# Altium integrated library Telelamp-Fuente.IntLib: 21 symbols
Pins are listed as number, name and electrical type; pins without a type are passive.

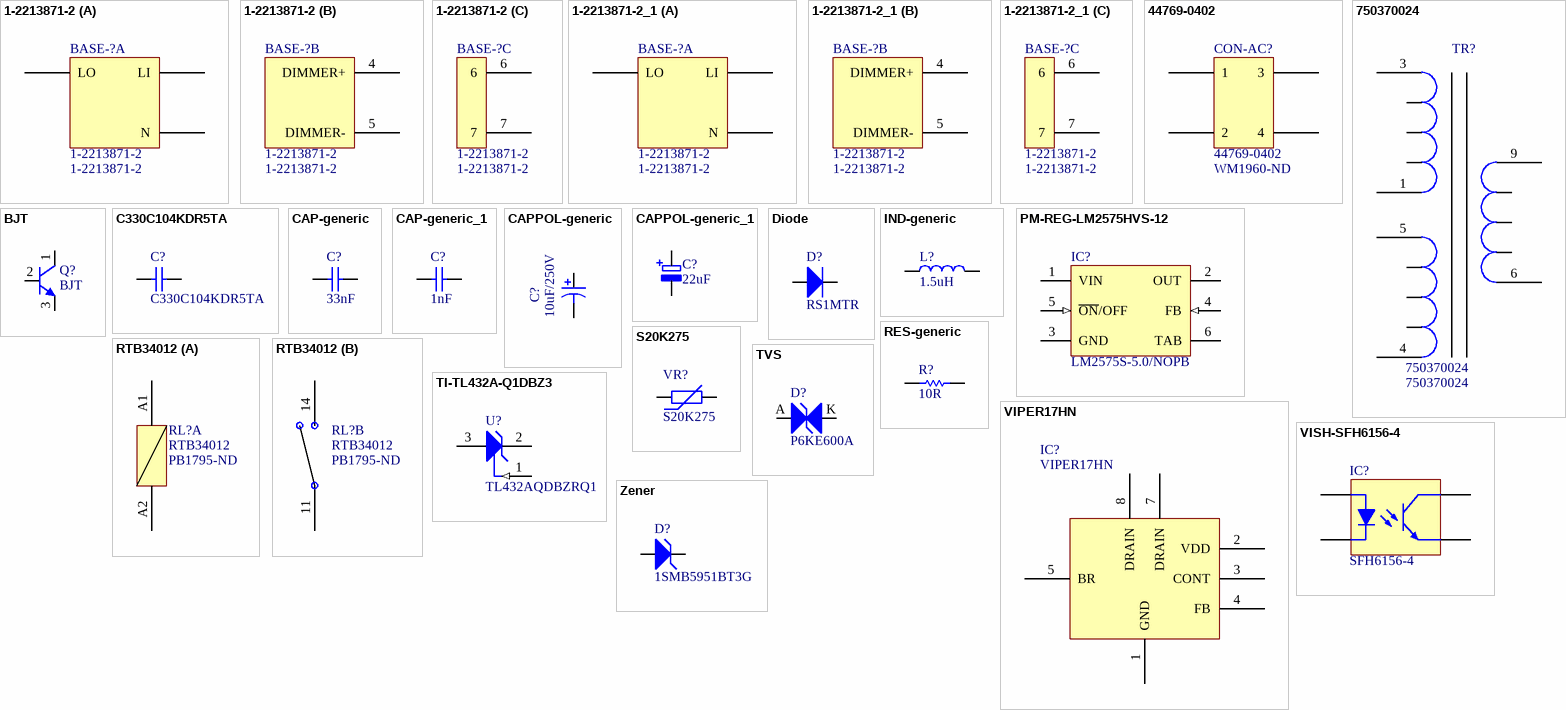
[diagram p0: symbols 1-2213871-2 to Zener]

## 1-2213871-2
designator BASE-?
LIGHT CONTROLLER BASE ASSY,81MM; Manufacturer: TE Connectivity AMP Connectors; Accessory Type: Light Controller Base Assembly; For Use With/Related Products: TE Connectivity, 2306130-x, 2213996-x; Supplier 1: Digi-Key; Manufacturer Part Number: 1-2213871-2; RoHS: RoHS Compliant; Category: Optoelectronics; Stock 1: 100; Pricing 1: 1=9.41, 10=8.523, 25=6.7476, 100=5.6821, 250=5.32692, 500=4.88302, 1000=4.61668 (USD); Part Status: Active; ComponentLink1URL: http://www.te.com/commerce/DocumentDelivery/DDEController?Action=srchrtrv&DocNm=2213871&DocType=Customer+Drawing&DocLang=English; ComponentLink1Description: http://www.te.com/commerce/DocumentDelivery/DDEController?Action=srchrtrv&DocNm=2213871&DocType=Customer+Drawing&DocLang=English; Supplier Part Number 1: A126616-ND; Value: 1-2213871-2
footprint BASE
part A pins: LI, LO, N
part B pins: 4 DIMMER+, 5 DIMMER-
part C pins: 6, 7

## 1-2213871-2_1
designator BASE-?, comment 1-2213871-2
LIGHT CONTROLLER BASE ASSY,81MM; Manufacturer: TE Connectivity AMP Connectors; Accessory Type: Light Controller Base Assembly; For Use With/Related Products: TE Connectivity, 2306130-x, 2213996-x; Supplier 1: Digi-Key; Manufacturer Part Number: 1-2213871-2; RoHS: RoHS Compliant; Category: Optoelectronics; Stock 1: 100; Pricing 1: 1=9.41, 10=8.523, 25=6.7476, 100=5.6821, 250=5.32692, 500=4.88302, 1000=4.61668 (USD); Part Status: Active; ComponentLink1URL: http://www.te.com/commerce/DocumentDelivery/DDEController?Action=srchrtrv&DocNm=2213871&DocType=Customer+Drawing&DocLang=English; ComponentLink1Description: http://www.te.com/commerce/DocumentDelivery/DDEController?Action=srchrtrv&DocNm=2213871&DocType=Customer+Drawing&DocLang=English; Supplier Part Number 1: A126616-ND; Value: 1-2213871-2
footprint PCBComponent_1
part A pins: LI, LO, N
part B pins: 4 DIMMER+, 5 DIMMER-
part C pins: 6, 7

## 44769-0402
designator CON-AC?  Supplier Part Number 1: WM1960-ND
CONN HDR RCPT 4POS 3MM VERT PCB; Manufacturer: Molex Connector Corporation; Connector Type: Receptacle; Style: Board to Board or Cable; Number of Positions: 4; Number of Positions Loaded: All; Pitch - Mating: 0.118" (3.00mm); Contact Length - Post: 0.134" (3.40mm); Material Flammability Rating: UL94 V-0; Mated Stacking Heights: 16.86mm; Current Rating: 5A; Voltage Rating: 250VAC; Supplier 1: Digi-Key; Manufacturer Part Number: 44769-0402; RoHS: RoHS Compliant; Category: Connectors, Interconnects; Stock 1: 1778; Pricing 1: 1=2.24, 10=2.034, 100=1.743, 500=1.4525, 1000=1.245, 5000=1.1039 (USD); Packaging: Tray; Part Status: Active; Contact Type: Female Socket; Row Spacing - Mating: 0.118" (3.00mm); Mounting Type: Through Hole; Termination: Solder; Fastening Type: Push-Pull; Contact Finish - Mating: Gold; Contact Finish Thickness - Mating: 15µin (0.38µm); Insulation Color: Black; Insulation Height: 0.535" (13.60mm); Operating Temperature: -40°C ~ 105°C; Contact Finish - Post: Tin; Ingress Protection: -; Features: Board Guide; Applications: General Purpose, Telecommunications; Insulation Material: Liquid Crystal Polymer (LCP), Glass Filled; Contact Shape: Square; Contact Material: Phosphor Bronze; Contact Finish Thickness - Post: 100µin (2.54µm); ComponentLink1URL: http://www.molex.com/pdm_docs/sd/447690401_sd.pdf; ComponentLink1Description: http://www.molex.com/pdm_docs/sd/447690401_sd.pdf
footprint CON_4P_3MM
pins: 1, 2, 3, 4

## 750370024
designator TR?
TRANS OFF LINE POWER ST VIPER17H; Manufacturer: Wurth Electronics Midcom; Chipset Manufacturer: STMicroelectronics; Type: For AC/DC Converters; Voltage - Primary: 120 ~ 600V; Voltage - Auxillary: 16V @ 50mA; Voltage - Isolation: 4000Vrms; Inductance @ Frequency: 1.6mH @ 10kHz; Frequency: 115kHz; Supplier 1: Digi-Key; RoHS: RoHS Compliant; Category: Transformers; Stock 1: 0; Pricing 1: 130=4.379 (USD); Packaging: Tray; Part Status: Active; Applications: Flyback Converters; Intended Chipset: VIPER17H; Operating Temperature: -40°C ~ 125°C; Mounting Type: Through Hole; Size / Dimension: 0.540" L x 0.805" W (13.72mm x 20.45mm); Height - Seated (Max): 0.430" (10.92mm); Footprint: 0.540" L x 0.805" W (13.72mm x 20.45mm); ComponentLink1URL: http://katalog.we-online.de/pbs/datasheet/750370024.pdf; ComponentLink1Description: http://katalog.we-online.de/pbs/datasheet/750370024.pdf; Supplier Part Number 1: 732-2252-ND; Manufacturer Part Number: 750370024
footprint 750370024_WE_TRANSFO
pins: 1, 3, 4, 5, 6, 9

## BJT
designator Q?
footprint TO92-1
pins: 1 C, 2 B, 3 E

## C330C104KDR5TA
designator C?
footprint C_Radial_7_62/5_08 (Capacitor Size 7.62mm x 5.08mm pitch5.08 Height 9.14)
pins: 1, 2

## CAP-generic
designator C?, comment 33nF
Chip Ceramic Capacitor SMD; Populated: Yes; Voltage: 50V; Value: 33nF; Manuf1: *; Manuf2: *; Manuf1Partnumber: *; Manuf2Partnumber: *; ClassName: *; ROHS: Yes; LifeCycle: Checked; HelpURL: *; Supplier 1: Digi-Key; Supplier Part Number 1: 445-6950-1-ND
footprint CAPC1005X03N[0402] (Chip Resistor, 2-Leads, Body 1,00x0,50mm, IPC Medium Density)
footprint CAPC1608X05N[0603] (Chip Resistor, 2-Leads, Body 1,60x0,80mm, IPC Medium Density)
footprint CAPC2012X05N[0805] (Chip Resistor, 2-Leads, Body 2,00x1,25mm, IPC Medium Density)
footprint CAPC3216X06N[1206] (Chip Resistor, 2-Leads, Body 3,10x1,60mm, IPC Medium Density)
footprint CAPC3225X06N[1210] (Chip Resistor, 2-Leads, Body 3,10x2,60mm, IPC Medium Density)
footprint CAPC4532X06N[1812] (Chip Resistor, 2-Leads, Body 4,50x3,20mm, IPC Medium Density)
footprint 1812X7R
pins: 1, 2

## CAP-generic_1
designator C?, comment 1nF
Ceramic Capacitor PTH; Manufacturer: Vishay BC Components; Manufacturer Part Number: S102K33Y5PP63K5R; Populated: Yes; Voltage: 2000V; Tolerance: ±10%; Voltage - Rated: 2000V (2kV); Temperature Coefficient: Y5P (B); Value: 1nF; Manuf1: *; Manuf2: *; Manuf1Partnumber: *; Manuf2Partnumber: *; ClassName: *; ROHS: Yes; LifeCycle: Checked; HelpURL: *; Supplier 1: Digi-Key; Supplier Part Number 1: 1252PH-ND; Category: Capacitors; Stock 1: 12304; Pricing 1: 1=0.26, 10=0.179, 100=0.1017, 500=0.07176, 1000=0.06279, 2500=0.0598, 5000=0.05532 (USD); Packaging: Bulk; Part Status: Active; Operating Temperature: -30°C ~ 85°C; Features: -; Ratings: -; Applications: General Purpose; Failure Rate: -; Mounting Type: Through Hole; Package / Case: Radial, Disc; Size / Dimension: 0.335" Dia (8.50mm); Height - Seated (Max): 0.492" (12.50mm); Thickness (Max): -; Lead Spacing: 0.197" (5.00mm); Lead Style: Formed Leads - Kinked; ComponentLink1URL: http://www.vishay.com/docs/28515/sseries.pdf; ComponentLink1Description: http://www.vishay.com/docs/28515/sseries.pdf
footprint C025-024X044
footprint C025-025X050
footprint C025-030X050
footprint C025-040X050
footprint C025-050X050
footprint C025-060X050
footprint C025_050-024X070
footprint C025_050-025X075
footprint C025_050-035X075
footprint C025_050-045X075
footprint C025_050-055X075
footprint C050-024X044
footprint C050-025X075
footprint C050-030X075
footprint C050-035X075
footprint C050-045X075
footprint C050-050X075
footprint C050-055X075
footprint C050-075X075
footprint C075-032X103
footprint C075-042X103
footprint C075-052X106
footprint C075-063X106
footprint C102-043X133
footprint C102-054X133
footprint C102-064X133
footprint C102_152-062X184
footprint C150-054X183
footprint C150-064X183
footprint C150-072X183
footprint C150-084X183
footprint C150-091X182
footprint C225-062X268
footprint C225-074X268
footprint C225-087X268
footprint C225-108X268
footprint C225-113X268
footprint C275-093X316
footprint C275-113X316
footprint C275-134X316
footprint C275-154X316
footprint C275-173X316
footprint C275-205X316
footprint EU25-10
footprint EU35-10
footprint EU35-12
footprint EU43-14
footprint EU45-16
footprint EU45-18
footprint XC10B5
footprint XC10B6
footprint XC15B5
footprint XC15B6
footprint XC15B8
footprint XC15B10
footprint XC22B7
footprint XC22B10
footprint XC27B11
footprint XC27B13
footprint XC27B15
footprint XC27B18
footprint XC27B21
footprint YC7B5
footprint YC10B4
footprint YC10B5
footprint YC12B5
footprint YC15B5
footprint YC15B6
footprint YC15B7
footprint YC22B7
footprint C Disc 5x2.5-2.5
footprint C Disc 8x2.5-5.0 (C Disc 5x2.5-5.0)
footprint C907U102MYVDBA7317
footprint PHE840MB6100MB05R17
pins: 1, 2

## CAPPOL-generic
designator C?, comment 10uF/250V
Polarized Capacitor PTH; Populated: Yes; Voltage: 250V; Value: 10uF/250V; Manuf1: *; Manuf2: *; Manuf1Partnumber: *; Manuf2Partnumber: *; ClassName: *; ROHS: Yes; LifeCycle: Checked; HelpURL: *; Supplier 1: Digi-Key; Supplier Part Number 1: 493-12635-1-ND
footprint B45181A
footprint B45181B
footprint B45181C
footprint B45181D
footprint E1,8-4
footprint E2,5-4R
footprint E2,5-5
footprint E2,5-6
footprint E2,5-6E
footprint E2,5-7
footprint E2,5RE
footprint E2-4
footprint E2-5
footprint E3,5-8
footprint E3,5-10
footprint E5-4
footprint E5-5
footprint E5-6
footprint E5-8,5
footprint E5-10,5
footprint E5-13
footprint E5R
footprint E7,5-16
footprint E7,5-18
footprint E15-5
footprint E15-6
footprint E15-9
footprint E22-6
footprint E22-9
footprint E22-10
footprint E25-9
footprint E25-10
footprint E30-10
footprint E30-12
footprint E30-16
footprint E35-12
footprint E35-14
footprint E35-16
footprint E35-18
footprint E45-16
footprint E45-18
footprint E45-21
footprint E45-22
footprint E45-25
footprint E50-25
footprint E50-30
footprint E55-25
footprint E55-30
footprint EB20D
footprint EB22,5D
footprint EB25D
footprint EB30D
footprint EB35D
footprint ETR1
footprint ETR2
footprint ETR3
footprint ETR4
footprint ETR5
footprint P128-35
footprint P128-40
footprint P128-50
footprint P128-60
footprint TAP5-45
footprint TAP5-50
footprint TAP5-60
footprint TAP5-70
footprint TAP5-80
footprint TT2D4
footprint TT2D4L
footprint TT2D5
footprint TT2D5L
footprint TT2D6
footprint TT2D6L
footprint TT2D7
footprint TT2D7L
footprint TT5D9
footprint TT5D7L
footprint TT5D10
footprint TT5D11
footprint TT5D11L
footprint C Elec TH V 18x35-7.5 (C Elec TH 18x35 7.5mm pitch)
footprint C Elec TH V 4x7-2.5 (C Elec TH 4x7 2.5mm pitch)
footprint CAP AL TH D10 L5 H12.5 (10MM Diameter, 5MM Lead Spacing Aluminium Capacitor)
footprint CAP AL TH D10 L5 H14.5 (10MM Diameter, 5MM Lead Spacing Aluminium Capacitor)
footprint CAP AL TH D10 L5 H17.5 (10MM Diameter, 5MM Lead Spacing Aluminium Capacitor)
footprint CAP AL TH D10 L5 H22 (10MM Diameter, 5MM Lead Spacing Aluminium Capacitor)
footprint CAP AL TH D10 L5 H30 (10MM Diameter, 5MM Lead Spacing Aluminium Capacitor)
footprint CAP AL TH D12.5 L5 H14 (12.5MM Diameter, 5MM Lead Spacing Aluminium Capacitor)
footprint CAP AL TH D12.5 L5 H15 (12.5MM Diameter, 5MM Lead Spacing Aluminium Capacitor)
footprint CAP AL TH D12.5 L5 H16.5 (12.5MM Diameter, 5MM Lead Spacing Aluminium Capacitor)
footprint CAP AL TH D12.5 L5 H17.5 (12.5MM Diameter, 5MM Lead Spacing Aluminium Capacitor)
footprint CAP AL TH D12.5 L5 H20 (12.5MM Diameter, 5MM Lead Spacing Aluminium Capacitor)
footprint CAP AL TH D12.5 L5 H21.5 (12.5MM Diameter, 5MM Lead Spacing Aluminium Capacitor)
footprint CAP AL TH D12.5 L5 H22 (12.5MM Diameter, 5MM Lead Spacing Aluminium Capacitor)
footprint CAP AL TH D12.5 L5 H25 (12.5MM Diameter, 5MM Lead Spacing Aluminium Capacitor)
footprint CAP AL TH D12.5 L5 H26.5 (12.5MM Diameter, 5MM Lead Spacing Aluminium Capacitor)
footprint CAP AL TH D12.5 L5 H27 (12.5MM Diameter, 5MM Lead Spacing Aluminium Capacitor)
footprint CAP AL TH D12.5 L5 H35.5 (12.5MM Diameter, 5MM Lead Spacing Aluminium Capacitor)
footprint CAP AL TH D16 L7.5 H16.5 (16MM Diameter, 7.5MM Lead Spacing Aluminium Capacitor)
footprint CAP AL TH D16 L7.5 H20 (16MM Diameter, 7.5MM Lead Spacing Aluminium Capacitor)
footprint CAP AL TH D16 L7.5 H22 (16MM Diameter, 7.5MM Lead Spacing Aluminium Capacitor)
footprint CAP AL TH D16 L7.5 H26.5 (16MM Diameter, 7.5MM Lead Spacing Aluminium Capacitor)
footprint CAP AL TH D16 L7.5 H27 (16MM Diameter, 7.5MM Lead Spacing Aluminium Capacitor)
footprint CAP AL TH D16 L7.5 H33.5 (16MM Diameter, 7.5MM Lead Spacing Aluminium Capacitor)
footprint CAP AL TH D16 L7.5 H37 (16MM Diameter, 7.5MM Lead Spacing Aluminium Capacitor)
footprint CAP AL TH D22 L10 H14.5 (16MM Diameter, 7.5MM Lead Spacing Aluminium Capacitor)
footprint CAP AL TH D22 L10 H33 (16MM Diameter, 7.5MM Lead Spacing Aluminium Capacitor)
footprint CAP AL TH D22 L10 H43 (16MM Diameter, 7.5MM Lead Spacing Aluminium Capacitor)
footprint CAP AL TH D22 L10 H53 (16MM Diameter, 7.5MM Lead Spacing Aluminium Capacitor)
footprint CAP AL TH D25 L12.5 H14.5 (16MM Diameter, 7.5MM Lead Spacing Aluminium Capacitor)
footprint CAP AL TH D25 L12.5 H32 (16MM Diameter, 7.5MM Lead Spacing Aluminium Capacitor)
footprint CAP AL TH D25 L12.5 H42 (16MM Diameter, 7.5MM Lead Spacing Aluminium Capacitor)
footprint CAP AL TH D22 L10 H53 (16MM Diameter, 7.5MM Lead Spacing Aluminium Capacitor)
footprint CAP AL TH D25 L12.5 H52 (16MM Diameter, 7.5MM Lead Spacing Aluminium Capacitor)
pins: +, -

## CAPPOL-generic_1
designator C?, comment 22uF
Polarized Capacitor SMD; Manufacturer: Wurth Electronics Inc.; Manufacturer Part Number: 865080442004; Populated: Yes; Voltage: 25V; Tolerance: ±20%; Lifetime @ Temp.: 2000 Hrs @ 105°C; Polarization: Polar; Surface Mount Land Size: 0.209" L x 0.209" W (5.30mm x 5.30mm); Value: 22uF; Manuf1: *; Manuf2: *; Manuf1Partnumber: *; Manuf2Partnumber: *; ClassName: *; ROHS: Yes; LifeCycle: Checked; HelpURL: *; Supplier 1: Digi-Key; Supplier Part Number 1: 732-8432-1-ND; Category: Capacitors; Stock 1: 1763; Pricing 1: 1=0.19, 50=0.16, 100=0.139, 250=0.124, 500=0.108 (USD); Packaging: Cut Tape (CT); Part Status: Active; ESR (Equivalent Series Resistance): -; Operating Temperature: -55°C ~ 105°C; Ratings: -; Applications: General Purpose; Lead Spacing: -; Size / Dimension: 0.197" Dia (5.00mm); Height - Seated (Max): 0.217" (5.50mm); Mounting Type: Surface Mount; Package / Case: Radial, Can - SMD; ComponentLink1URL: http://katalog.we-online.de/pbs/datasheet/865080442004.pdf; ComponentLink1Description: http://katalog.we-online.de/pbs/datasheet/865080442004.pdf
footprint 140CLH-0810
footprint 140CLH-1010
footprint 140CLH-1014
footprint 150CLZ-0810
footprint 150CLZ-1010
footprint 150CLZ-1014
footprint 153CLV-0405
footprint 153CLV-0505
footprint 153CLV-0605
footprint 153CLV-0807
footprint 153CLV-0810
footprint 153CLV-1010
footprint 153CLV-1012
footprint 153CLV-1014
footprint 175TMP-0808
footprint 175TMP-0810
footprint A/3216-18R
footprint A/3216-18W
footprint B/3528-21R
footprint B/3528-21W
footprint C/6032-28R
footprint C/6032-28W
footprint CT3216
footprint CT3528
footprint CT6032
footprint CT7343
footprint D/7343-31R
footprint D/7343-31W
footprint E/7260-38R
footprint E/7260-38W
footprint PANASONIC_A
footprint PANASONIC_B
footprint PANASONIC_C
footprint PANASONIC_D
footprint PANASONIC_E
footprint PANASONIC_F
footprint PANASONIC_G
footprint SANYO-OSCON_SMD_A5
footprint SANYO-OSCON_SMD_B6
footprint SANYO-OSCON_SMD_C6
footprint SANYO-OSCON_SMD_E7
footprint SANYO-OSCON_SMD_E12
footprint SANYO-OSCON_SMD_F8
footprint SANYO-OSCON_SMD_F12
footprint SMC_A
footprint SMC_B
footprint SMC_C
footprint SMC_D
footprint SMC_E
footprint SMC_P
footprint SMC_Z
footprint UD-4X5,8_NICHICON
footprint UD-5X5,8_NICHICON
footprint UD-6,3X5,8_NICHICON
footprint UD-6,3X5,8_NICHICON
footprint UD-6,3X7,7_NICHICON
footprint UD-8X10_NICHICON
footprint UD-10X10_NICHICON
footprint R/2012-12R
footprint R/2012-12W
footprint SMD_M1 (Molded Capacitor, 2-Leads, Body 1,60x0,80mm, IPC Medium Density)
footprint SMD_M2 (Chip Cpacitor 2-Leads, Body 1,60x0,80mm, IPC Medium Density)
footprint CAP_TAN_A1206
footprint CAP_TAN_B1210
footprint CAP_TAN_D2917
footprint CAP_TAN_P0805
footprint CAP ALUM 6.6MM (Aluminum Electrolytic Capacitor, Body 6.60x6.60x7.70mm, IPC Low Density)
footprint CAP ALUM 8.3MM (Aluminum Electrolytic Capacitor, Body 8.30x8.30x10.50mm, IPC Low Density)
footprint CAP ALUM 10.3MM (Aluminum Electrolytic Capacitor, Body 10.30x10.30x10.50mm, IPC Low Density)
footprint CAPAE7266X55M (Aluminum Electrolytic Capacitor, Body 6,60x6,60x5,50mm, IPC Low Density)
footprint CAPAE7366X80M (Aluminum Electrolytic Capacitor, Body 6,60x6,60x8,00mm, IPC Low Density)
footprint R/2012 (R/2012 - 0805 (2012 métrico) 0.079" L x 0.049" A (2.00 mm x 1.25 mm))
footprint S/3216
footprint T/3528
footprint V/7343
footprint W/7343
footprint X/7343
footprint 6.3D_8A (Aluminum Electrolytic Capacitor, Body 6.60x6.60x8.00mm, IPC Low Density)
pins: +, -

## Diode
designator D?, comment RS1MTR
Default Diode; Populated: Yes; Value: RS1MTR; ROHS: Yes; LifeCycle: Checked; Supplier 1: Digi-Key; Supplier Part Number 1: 1655-1501-1-ND
footprint DO214AA
footprint DO214AC
footprint DO214AC-W
footprint DO214BA
footprint GF1
footprint MELF-MLL41
footprint MICROMELF-R
footprint MICROMELF-W
footprint MINIMELF
footprint SC79_INFINEON
footprint SCD80_INFINEON
footprint SMB
footprint SMC
footprint SOD80C
footprint SOD106-R
footprint SOD106-W
footprint SOD106A-R
footprint SOD110-R
footprint SOD110-W
footprint SOD-123
footprint SOD-123FL
footprint SOD-323
footprint SOD-323F
footprint SOD-523
footprint D0603 (Chip Diode 2-Leads, Body 1,60x0,80mm, IPC Medium Density)
footprint D0805 (Chip Diode, 2-Leads, Body 2,00x1,25mm, IPC Medium Density)
footprint D1206 (Chip Diode, 2-Leads, Body 3,20x1,60mm, IPC Medium Density)
footprint DO216AA
footprint SMA
footprint DO222AA (DO216AA ST-MITE)
footprint DO214AB
footprint SOD-128
footprint SOD923
footprint DO-219AB (SMF) (SODFL, 2-Leads, Body 1.80x3.70mm, IPC Medium Density)
pins: A, K

## IND-generic
designator L?, comment 1.5uH
Chip Inductor SMD; Manufacturer: Bourns Inc.; Manufacturer Part Number: SRN2512-1R5M; Populated: Yes; Type: Wirewound; Material - Core: Ferrite; Tolerance: ±20%; Shielding: Semi-Shielded; DC Resistance (DCR): 96 mOhm Max; Q @ Freq: 10 @ 1MHz; Value: 1.5uH; Manuf1: *; Manuf2: *; Manuf1Partnumber: *; Manuf2Partnumber: *; ClassName: *; ROHS: Yes; LifeCycle: Checked; HelpURL: *; Current: *; Supplier 1: Digi-Key; Supplier Part Number 1: SRN2512-1R5MCT-ND; Category: Inductors, Coils, Chokes; Stock 1: 13261; Pricing 1: 1=0.26, 10=0.235, 100=0.1613, 500=0.13782, 1000=0.10557 (USD); Packaging: Cut Tape (CT); Part Status: Active; Ratings: -; Operating Temperature: -55°C ~ 125°C; Mounting Type: Surface Mount; Package / Case: 1008 (2520 Metric); Supplier Device Package: 1008 (2520 Metric); Size / Dimension: 0.098" L x 0.079" W (2.50mm x 2.00mm); Height - Seated (Max): 0.047" (1.20mm); ComponentLink1URL: http://www.bourns.com/docs/Product-Datasheets/SRN2512.pdf; ComponentLink1Description: http://www.bourns.com/docs/Product-Datasheets/SRN2512.pdf
footprint INDC1005X03N[0402] (Chip Inductor, 2-Leads, Body 1,00x0,50mm, IPC Medium Density)
footprint INDC1210X06N[0504] (Chip Inductor, 2-Leads, Body 1,20x1,00mm, IPC Medium Density)
footprint INDC1608X05N[0603] (Chip Inductor, 2-Leads, Body 1,60x0,80mm, IPC Medium Density)
footprint INDC2012X05N[0805] (Chip Inductor, 2-Leads, Body 2,00x1,25mm, IPC Medium Density)
footprint INDC3216X06N[1206] (Chip Inductor, 2-Leads, Body 3,10x1,60mm, IPC Medium Density)
footprint INDC3225X06N[1210] (Chip Inductor, 2-Leads, Body 3,10x2,60mm, IPC Medium Density)
footprint IND_CD32
footprint IND1008[2520] (2520)
pins: 1, 2

## PM-REG-LM2575HVS-12
designator IC?, comment LM2575S-5.0/NOPB
SIMPLE SWITCHER® 1A Step-Down Voltage Regulator, 5-pin TO-263, Pb-Free; Manufacturer: Texas Instruments; PowerWise: N; PackageTopMarking: NSUZXYTTE#*LM2575S*-5.0 P+; Code_JEDEC: MO-169-AB; RoHS: Y; PackageReference: KTT0005B; ComponentLink1URL: http://www.ti.com/general/docs/lit/getliterature.tsp?genericPartNumber=LM2575-N&fileType=pdf; CompType: Switcher; PinCount: 5; PackageDescription: TO-263, Molded, .400 x .390 x .180in, 5 Lead, .067in Pitch, Surface Mount; ComponentLink1Description: Datasheet URL
footprint KTT0005B_N (DPAK, 5-Leads, Body 10.65x9.65mm, Pitch 1.7mm, IPC Medium Density)
footprint KTT0005B_M (DPAK, 5-Leads, Body 10.65x9.65mm, Pitch 1.7mm, IPC Low Density)
footprint KTT0005B_L (DPAK, 5-Leads, Body 10.65x9.65mm, Pitch 1.7mm, IPC High Density)
pins: 1 VIN (power), 2 OUT (power), 3 GND (power), 4 FB (in), 5 ~{ON}/OFF (in), 6 TAB (power)

## RES-generic
designator R?, comment 10R
Chip Resistor SMD; Populated: Yes; Power: 1/8W; Tolerance: 1%; Value: 10R; Manuf1: *; Manuf2: *; Manuf1Partnumber: *; Manuf2Partnumber: *; ClassName: *; ROHS: Yes; LifeCycle: Checked; HelpURL: *; Supplier 1: Digi-Key; Supplier Part Number 1: 311-10.0CRDKR-ND
footprint RESC1005X03N[0402] (Chip Resistor, 2-Leads, Body 1,00x0,50mm, IPC Medium Density)
footprint RESC1608X05N[0603] (Chip Resistor, 2-Leads, Body 1,60x0,80mm, IPC Medium Density)
footprint RESC2012X05N[0805] (Chip Resistor, 2-Leads, Body 2,00x1,25mm, IPC Medium Density)
footprint RESC3216X06N[1206] (Chip Resistor, 2-Leads, Body 3,10x1,60mm, IPC Medium Density)
footprint RESC3225X06N[1210] (Chip Resistor, 2-Leads, Body 3,10x2,60mm, IPC Medium Density)
footprint RESC4532X06N[1812] (Chip Resistor, 2-Leads, Body 4,50x3,20mm, IPC Medium Density)
footprint RESC5025X06N[2010] (Chip Resistor, 2-Leads, Body 5,00x2,50mm, IPC Medium Density)
footprint RESC6432X06N[2512] (Chip Resistor, 2-Leads, Body 6,35x3,20mm, IPC Medium Density)
footprint RES 0402/1005 (Chip Resistor, 2-Leads, Body 1.0x0.5mm, IPC Medium Density)
footprint RES 0402/1005 RF (Chip Resistor, 2-Leads, Body 1.0x0.5mm, IPC High Density)
footprint RES 0603/1608 RF (Chip Resistor, 2-Leads, Body 1.60x0.80mm, IPC High Density)
footprint RES 0805/2012 (Chip Resistor, 2-Leads, Body 2.00x1.25mm, IPC Medium Density)
footprint RES 0805/2012 RF (Chip Resistor, 2-Leads, Body 2.00x1.25mm, IPC High Density)
footprint RES 1206/3216 (Chip Resistor, 2-Leads, Body 3.13x1.55mm, IPC Medium Density)
footprint RES 1206/3216 RF (Chip Resistor, 2-Leads, Body 3.13x1.55mm, IPC High Density)
footprint RESC6865X10N[2725] (Chip Resistor, 2-Leads, Body 6,81x6,45mm, IPC Medium Density)
pins: 1, 2

## RTB34012
designator RL?  Supplier Part Number 1: PB1795-ND
RELAY GEN PURPOSE SPST 12A 12V; Manufacturer: TE Connectivity Potter & Brumfield Relays; Relay Type: General Purpose; Coil Type: Non Latching; Coil Voltage: 12VDC; Contact Form: SPST-NO (1 Form A); Switching Voltage: 400VAC - Max; Turn On Voltage (Max): 8.4 VDC; Turn Off Voltage (Min): 1.2 VDC; Coil Power: 400 mW; Supplier 1: Digi-Key; Manufacturer Part Number: RTB34012; RoHS: RoHS Compliant; Category: Relays; Stock 1: 506; Pricing 1: 1=3.41, 10=3.195, 25=2.84, 50=2.698, 100=2.556, 250=2.272, 500=2.13, 1000=1.988, 5000=1.917 (USD); Packaging: Tube; Part Status: Active; Features: Insulation - Class F, Sealed - Fully; Mounting Type: Through Hole; Termination Style: PC Pin; Operating Temperature: -40°C ~ 85°C; Contact Material: Silver Nickel (AgNi); ComponentLink1URL: http://www.te.com/commerce/DocumentDelivery/DDEController?Action=srchrtrv&DocNm=RT1&DocType=DS&DocLang=English; ComponentLink1Description: http://www.te.com/commerce/DocumentDelivery/DDEController?Action=srchrtrv&DocNm=RT1&DocType=DS&DocLang=English
footprint RTB34012
part A pins: A1, A2
part B pins: 11, 14

## S20K275
designator VR?
VARISTOR 387V 8KA DISC 20MM; Manufacturer: EPCOS (TDK); Varistor Voltage (Typ): 430V; Varistor Voltage (Max): 473V; Number of Circuits: 1; Maximum AC Volts: 275VAC; Maximum DC Volts: 350VDC; Energy: 151J; Populated: Yes; Manufacturer Part Number: S20K275; RoHS: Yes; Category: Circuit Protection; Packaging: Bulk; Varistor Voltage (Min): 387V; Current - Surge: 8kA; Package / Case: Disc 20mm; Mounting Type: Through Hole; ComponentLink1URL: http://en.tdk.eu/inf/70/db/var_11/SIOV_Leaded_StandarD.pdf; ComponentLink1Description: http://en.tdk.eu/inf/70/db/var_11/SIOV_Leaded_StandarD.pdf; Value: S20K275; LifeCycle: Checked; Supplier 1: Digi-Key; Supplier Part Number 1: MOV-20D511K-ND; Stock 1: 11154; Pricing 1: 1=0.68, 10=0.595, 25=0.5272, 100=0.459, 250=0.39952, 500=0.34, 1000=0.272, 2500=0.2465, 5000=0.2295 (USD); Part Status: Active; Operating Temperature: -40°C ~ 85°C (TA); ComponentLink2URL: http://www.bourns.com/docs/Product-Datasheets/MOV20D.pdf; ComponentLink2Description: http://www.bourns.com/docs/Product-Datasheets/MOV20D.pdf
footprint S20K275
pins: 1, 2

## TI-TL432A-Q1DBZ3
designator U?, comment TL432AQDBZRQ1
Automotive Catalog Adjustable Precision Shunt Regulator, 34 ppm / degC, 100 mA, -40 to 125 degC, 3-pin SOT-23 (DBZ), Green (RoHS & no Sb/Br); Manufacturer: Texas Instruments; VO Adj(Min)(V): 2.495; VO Adj(Max)(V): 36; SubFamily: Shunt Voltage Reference; Iout/Iz(Max)(mA): 100; Temp Coeff(Typ)(ppm/ degree C): 34; Initial Accuracy @ 25/deg C(%): 1; Min Iz for Regulation(uA): 600; PartNumber: TL432AQDBZRQ1; ComponentLink2URL: http://www.ti.com/general/docs/lit/getliterature.tsp?genericPartNumber=TL432A-Q1&fileType=pdf; DatasheetVersion: SLVS900A; ComponentLink2Description: Datasheet; PackageReference: DBZ0003A; ComponentLink1Description: Manufacturer URL; ComponentLink3Description: Package Specification; PackageVersion: 4203227/B; PackageDescription: 3-Pin Plastic Small Outline, Body 2.92 x 1.3 mm, Pitch 0.95 mm; Rating: Automotive; ComponentLink1URL: http://www.ti.com/; Eco-Plan: Green (RoHS & no Sb/Br); Code_JEDEC: TO-236; Mounting Technology: Surface Mount; ComponentLink3URL: http://www.ti.com/litv/pdf/mpds108a
footprint DBZ0003A_N (SOT23, 3-Leads, Body 3.04x1.4mm, Pitch 0.95mm, IPC Medium Density)
footprint DBZ0003A_M (SOT23, 3-Leads, Body 3.04x1.4mm, Pitch 0.95mm, IPC Low Density)
footprint DBZ0003A_L (SOT23, 3-Leads, Body 3.04x1.4mm, Pitch 0.95mm, IPC High Density)
pins: 1 REF (in), 2 CATHODE, 3 ANODE

## TVS
designator D?, comment P6KE600A
TVS DIODE; Manufacturer: Littelfuse Inc.; Populated: Yes; Type: Zener; Voltage - Reverse Standoff (Typ): 512V; Voltage - Breakdown (Min): 570V; Voltage - Clamping (Max) @ Ipp: 828V; Current - Peak Pulse (10/1000µs): 750mA; Power - Peak Pulse: 600W; Power Line Protection: No; ROHS: Yes; Value: P6KE600A; LifeCycle: Checked; Supplier 1: Digi-Key; Supplier Part Number 1: P6KE600ACT-ND; Manufacturer Part Number: P6KE600A; Category: Circuit Protection; Stock 1: 3458; Pricing 1: 1=0.66, 10=0.552, 25=0.4832, 100=0.4141, 250=0.35884, 500=0.30364, 1000=0.23463 (USD); Packaging: Cut Tape (CT); Part Status: Active; Applications: General Purpose; Capacitance @ Frequency: -; Operating Temperature: -55°C ~ 175°C (TJ); Mounting Type: Through Hole; Package / Case: DO-204AC, DO-15, Axial; Supplier Device Package: DO-204AC (DO-15); ComponentLink1URL: http://www.littelfuse.com/~/media/electronics/datasheets/tvs_diodes/littelfuse_tvs_diode_p6ke_datasheet.pdf.pdf; ComponentLink1Description: http://www.littelfuse.com/~/media/electronics/datasheets/tvs_diodes/littelfuse_tvs_diode_p6ke_datasheet.pdf.pdf
footprint DO-204AC, DO-15, Axial (TVS DIODE 512VWM 828VC DO204AC)
pins: A, K

## VIPER17HN
designator IC?
IC OFFLINE CONV PWM OVP OCP 8DIP; Manufacturer: STMicroelectronics; Output Isolation: Isolated; Internal Switch(s): Yes; Voltage - Breakdown: 800V; Topology: Flyback; Voltage - Supply (Vcc/Vdd): 8.5 V ~ 23.5 V; Duty Cycle: 70%; Frequency - Switching: 115kHz; Fault Protection: Current Limiting, Over Temperature, Over Voltage; Supplier 1: Digi-Key; Manufacturer Part Number: VIPER17HN; RoHS: RoHS Compliant; Category: Integrated Circuits (ICs); Stock 1: 163; Pricing 1: 1=0.91, 10=0.814, 100=0.6348, 500=0.5244, 1000=0.414 (USD); Packaging: Tube; Part Status: Active; Control Features: -; Operating Temperature: -40°C ~ 150°C (TJ); Package / Case: 8-DIP (0.300", 7.62mm), 7 Leads; Supplier Device Package: 8-DIP; Mounting Type: Through Hole; Base Part Number: VIPER17; ComponentLink1URL: http://www.st.com/content/ccc/resource/technical/document/datasheet/be/0b/b1/be/53/ef/4f/78/CD00185039.pdf/files/CD00185039.pdf/_jcr_content/translations/en.CD00185039.pdf; ComponentLink1Description: http://www.st.com/content/ccc/resource/technical/document/datasheet/be/0b/b1/be/53/ef/4f/78/CD00185039.pdf/files/CD00185039.pdf/_jcr_content/translations/en.CD00185039.pdf; Supplier Part Number 1: 497-6950-5-ND
footprint DIP8_7
pins: 1 GND, 2 VDD, 3 CONT, 4 FB, 5 BR, 7 DRAIN, 8 DRAIN

## VISH-SFH6156-4
designator IC?, comment SFH6156-4
Optocoupler, Phototransistor Output, High Reliability, 5300 VRMS, -55 to 100 degC, 4-Pin SMD, Body Max. 6.81 x 4.83 mm, RoHS; Manufacturer: Vishay Semiconductor; Forward Voltage: 1.25 V Typ.; Collector Emitter Leakage Current: 5 nA; Collector Emitter Capacitance: 5.2 pF; Capacitance: 13 pF; Reverse Current: 0.01 uA Typ.; IC / IF: 160% to 320%; ComponentLink1Description: Manufacturer URL; ComponentLink3URL: http://www.vishay.com/docs/83671/sfh615a.pdf; VISO: 5300 VRMS; PartNumber: SFH6156-4; ComponentLink1URL: http://www.vishay.com/; PackageVersion: Rev. 2.6; Mounting Technology: Surface Mount; Ambient Temperature Range: -55 to 100 degC; ComponentLink2URL: http://www.vishay.com/docs/83671/sfh615a.pdf; PackageDescription: 4-Pin SMD, Body 6.645 x 4.69 mm, Pitch 2.54 mm; ComponentLink3Description: Package Specification; DatasheetVersion: Rev. 2.6; ComponentLink2Description: Datasheet; PackageReference: SFH6156-4; RoHS: TRUE
footprint VISH-SFH6156-4_V (SMD, 4-Leads, Body 6.645x4.69mm, Pitch 2.54mm)
pins: 1 A, 2 C, 3 E, 4 C

## Zener
designator D?, comment 1SMB5951BT3G
Zener Diode; Populated: Yes; ROHS: Yes; Value: 1SMB5951BT3G; LifeCycle: Checked; Supplier 1: Digi-Key; Supplier Part Number 1: 1SMB5951BT3GOSCT-ND
footprint DO214AA
footprint DO214AC
footprint DO214AC-W
footprint DO214BA
footprint GF1
footprint MELF-MLL41
footprint MICROMELF-R
footprint MICROMELF-W
footprint MINIMELF
footprint SC79_INFINEON
footprint SCD80_INFINEON
footprint SMB
footprint SMC
footprint SOD80C
footprint SOD106-R
footprint SOD106-W
footprint SOD106A-R
footprint SOD110-R
footprint SOD110-W
footprint SOD-123
footprint SOD-123FL
footprint SOD-323
footprint SOD-323F
footprint SOD-523
footprint D0603 (Chip Diode 2-Leads, Body 1,60x0,80mm, IPC Medium Density)
footprint D0805 (Chip Diode, 2-Leads, Body 2,00x1,25mm, IPC Medium Density)
footprint D1206 (Chip Diode, 2-Leads, Body 3,20x1,60mm, IPC Medium Density)
footprint SOD-128
footprint SOD923
footprint DO-219AB (SMF) (SODFL, 2-Leads, Body 1.80x3.70mm, IPC Medium Density)
pins: A, K